# EAGLE library part TB6612FNG (library Driver-Motor)
https://www.pololu.com/product/713 Esta pequeña placa es una forma fácil de usar el controlador de motor dual TB6612FNG de Toshiba, que puede controlar de forma independiente dos motores de CC bidireccionales o un motor paso a paso bipolar. Una tensión de motor recomendada de 4.5 V a 13.5 V y una salida de corriente pico de 3 A por canal (1 A continuo) hacen de este un excelente controlador de motor para motores de baja potencia.
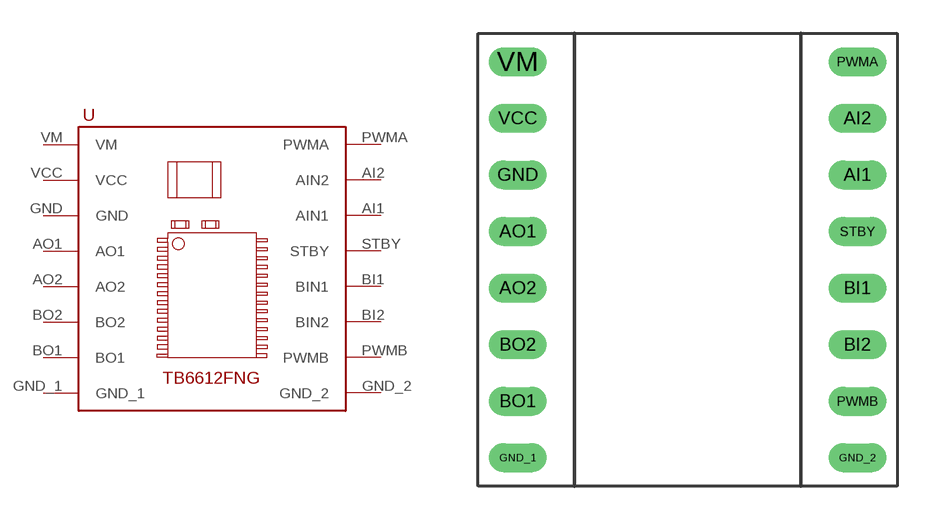
[diagram p1: symbol with the pads of TB6612FNG; footprint TB6612FNG]

Designator prefix -

## TB6612FNG  [TB6612FNG]
AI1  AIN1
AI2  AIN2
AO1  AO1
AO2  AO2
BI1  BIN1
BI2  BIN2
BO1  BO1
BO2  BO2
GND  GND
GND_1  GND_1
GND_2  GND_2
PWMA  PWMA
PWMB  PWMB
STBY  STBY
VCC  VCC
VM  VM

## Footprint TB6612FNG (pad centres in mm)
This tiny breakout board for TI’s DRV8833 dual motor driver can deliver 1.2 A per channel continuously (2 A peak) to a pair of DC motors. With an operating voltage range from 2.7 V to 10.8 V and built-in protection against reverse-voltage, under-voltage, over-current, and over-temperature, this driver is a great solution for powering small, low-voltage motors.
drill 0.8 long: AI1 6.35,3.81; AI2 6.35,6.35; AO1 -8.89,1.27; AO2 -8.89,-1.27; BI1 6.35,-1.27; BI2 6.35,-3.81; BO1 -8.89,-6.35; BO2 -8.89,-3.81; GND -8.89,3.81; GND_1 -8.89,-8.89; GND_2 6.35,-8.89; PWMA 6.35,8.89; PWMB 6.35,-6.35; STBY 6.35,1.27; VCC -8.89,6.35; VM -8.89,8.89